# Altium footprint library PCB - LEADLESS - QFN - TI VQFN-20 RGY0020B.PcbLib: 1 footprints
Each footprint in its own frame and in the unit in brackets; x right, y up, seen from the top. Pads: shape width x height; smd on the part's side, far side on the other; paste and mask are expansions set on the pad; w line width, h text height; cw(c..) or ccw(c..) is an arc to the next point about the centre after c.
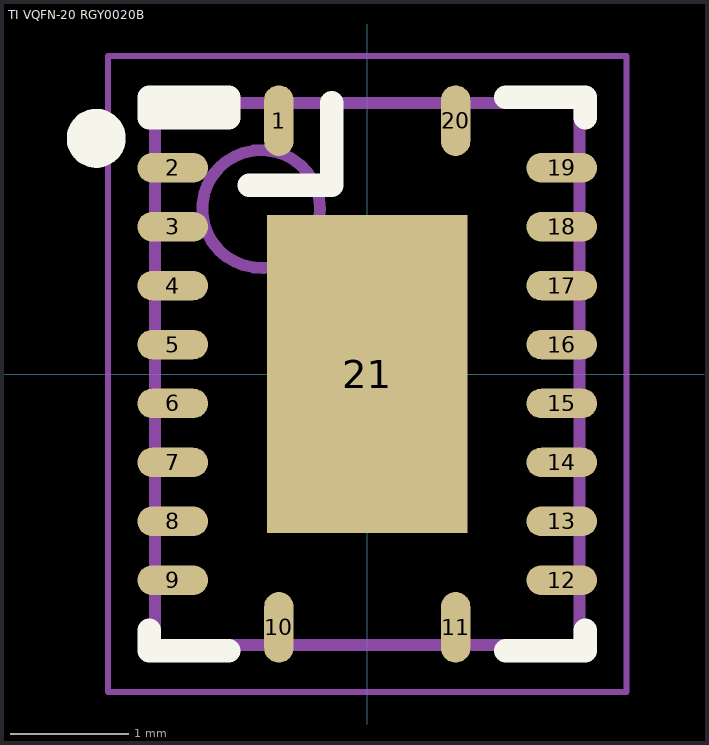
[diagram p0: the footprint, top view; thin cyan lines are the x and y axes]

## TI VQFN-20 RGY0020B [mm] "VQFN-20 RGY, 20-Leads, Body 3.50x4.50mm, Pitch 1.50mm/0.50mm, Thermal Pad 1.70x2.70mm"
height 1
pads (21):
  oval 0.25x0.6 smd: 1(-0.75,2.15) 10(-0.75,-2.15) 11(0.75,-2.15) 20(0.75,2.15)
  oval 0.6x0.25 smd: 2(-1.65,1.75) 3(-1.65,1.25) 4(-1.65,0.75) 5(-1.65,0.25) 6(-1.65,-0.25) 7(-1.65,-0.75) 8(-1.65,-1.25) 9(-1.65,-1.75) 12(1.65,-1.75) 13(1.65,-1.25) 14(1.65,-0.75) 15(1.65,-0.25) 16(1.65,0.25) 17(1.65,0.75) 18(1.65,1.25) 19(1.65,1.75)
  rect 1.7x2.7 smd: 21(0,0)
Top Overlay:
  circle w0.25: c-2.3,2 r0.125
  lines w0.2: -1.85,-2.175 -1.85,-2.35 -1.175,-2.35 ; -1,1.6 -0.3,1.6 -0.3,2.3 ; 1.175,-2.35 1.85,-2.35 1.85,-2.175 ; 1.175,2.35 1.85,2.35 1.85,2.175 ; -1.85,2.175 -1.175,2.175 -1.175,2.35 -1.85,2.35 -1.85,2.175
Mechanical 13:
  circle w0.1: c-0.9,1.4 r0.5
  lines w0.1: -1.8,-2.3 -1.8,2.3 1.8,2.3 1.8,-2.3 -1.8,-2.3
Mechanical 15:
  lines w0.05: -2.2,-2.7 -2.2,2.7 2.2,2.7 2.2,-2.7 -2.2,-2.7
  lines w0.1: -0.5,0 0.5,0 ; 0,-0.5 0,0.5
3D body "TI VQFN-20 RGY.step": height 1, standoff 0, extent -1.81,-2.31 1.81,2.31